# Altium footprint library CUI_TB007-508-03BE.PcbLib: 1 footprints
Each footprint in its own frame and in the unit in brackets; x right, y up, seen from the top. Pads: shape width x height; smd on the part's side, far side on the other; paste and mask are expansions set on the pad; w line width, h text height; cw(c..) or ccw(c..) is an arc to the next point about the centre after c.
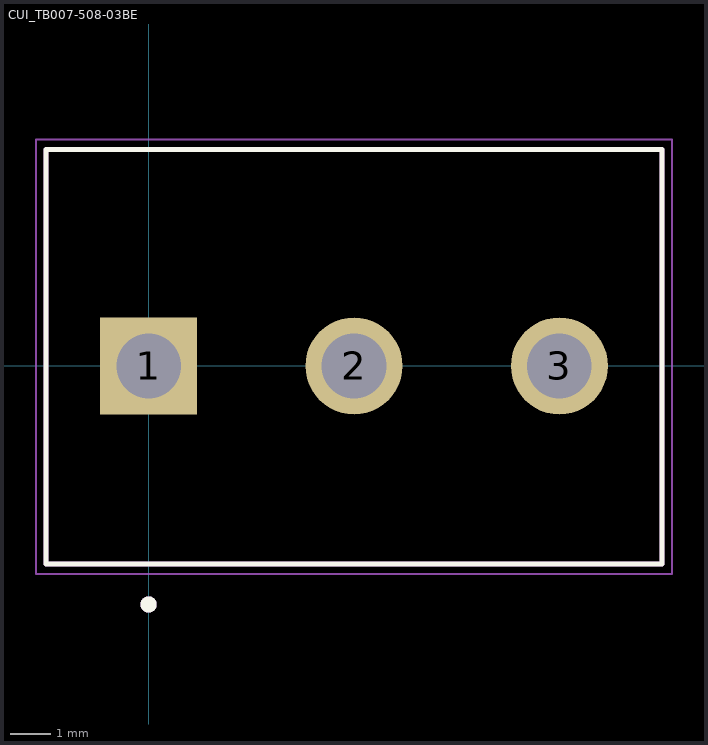
[diagram p0: the footprint, top view; thin cyan lines are the x and y axes]

## CUI_TB007-508-03BE [mm]
pads (3):
  rect 2.4x2.4 / inner round 2.4 / far side rect 2.4x2.4 hole 1.6: 1(0,0)
  round 2.4 hole 1.6: 2(5.08,0) 3(10.16,0)
Top Overlay:
  circle w0.2: c0,-5.9 r0.1
  lines w0.127: -2.54,-4.9 12.7,-4.9 12.7,5.35 -2.54,5.35 -2.54,-4.9
Assembly Top:
  circle w0.2: c0,-5.9 r0.1
  lines w0.127: -2.54,-4.9 12.7,-4.9 12.7,5.35 -2.54,5.35 -2.54,-4.9
Courtyard Top:
  lines w0.05: -2.79,-5.15 -2.79,5.6 12.95,5.6 12.95,-5.15 -2.79,-5.15
3D body "step_temp.STEP": height 14, standoff -3.7, extent -3.094,-4.789 12.746,5.461